# EAGLE library part STM32G0B1CETXN (library STM32G0B1CETxN)
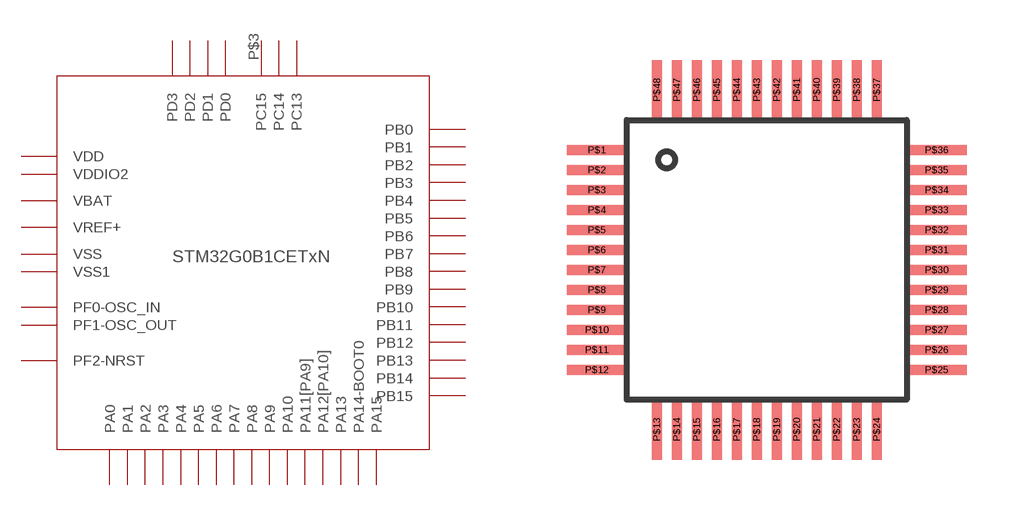
[diagram p0: symbol with the pads of LQFP48; footprint LQFP48]

Designator prefix -

## STM32G0B1CETXN  [LQFP48]
P$1  PC13
P$2  PC14
P$3  PC15
P$4  VBAT  pwr
P$5  VREF+  pwr
P$6  VDD  pwr
P$7  VSS  pwr
P$8  PF0-OSC_IN
P$9  PF1-OSC_OUT
P$10  PF2-NRST
P$11  PA0
P$12  PA1
P$13  PA2
P$14  PA3
P$15  PA4
P$16  PA5
P$17  PA6
P$18  PA7
P$19  PB0
P$20  PB1
P$21  PB2
P$22  PB10
P$23  PB11
P$24  PB12
P$25  PB13
P$26  PB14
P$27  PB15
P$28  PA8
P$29  PA9
P$30  VSS1  pwr
P$31  VDDIO2  pwr
P$32  PA10
P$33  PA11[PA9]
P$34  PA12[PA10]
P$35  PA13
P$36  PA14-BOOT0
P$37  PA15
P$38  PD0
P$39  PD1
P$40  PD2
P$41  PD3
P$42  PB3
P$43  PB4
P$44  PB5
P$45  PB6
P$46  PB7
P$47  PB8
P$48  PB9

## Footprint LQFP48 (pad centres in mm)
smd 1.5 x 0.25: P$1 -4.25,2.75; P$2 -4.25,2.25; P$3 -4.25,1.75; P$4 -4.25,1.25; P$5 -4.25,0.75; P$6 -4.25,0.25; P$7 -4.25,-0.25; P$8 -4.25,-0.75; P$9 -4.25,-1.25; P$10 -4.25,-1.75; P$11 -4.25,-2.25; P$12 -4.25,-2.75; P$25 4.25,-2.75; P$26 4.25,-2.25; P$27 4.25,-1.75; P$28 4.25,-1.25; P$29 4.25,-0.75; P$30 4.25,-0.25; P$31 4.25,0.25; P$32 4.25,0.75; P$33 4.25,1.25; P$34 4.25,1.75; P$35 4.25,2.25; P$36 4.25,2.75
smd 0.25 x 1.5: P$13 -2.75,-4.25; P$14 -2.25,-4.25; P$15 -1.75,-4.25; P$16 -1.25,-4.25; P$17 -0.75,-4.25; P$18 -0.25,-4.25; P$19 0.25,-4.25; P$20 0.75,-4.25; P$21 1.25,-4.25; P$22 1.75,-4.25; P$23 2.25,-4.25; P$24 2.75,-4.25; P$37 2.75,4.25; P$38 2.25,4.25; P$39 1.75,4.25; P$40 1.25,4.25; P$41 0.75,4.25; P$42 0.25,4.25; P$43 -0.25,4.25; P$44 -0.75,4.25; P$45 -1.25,4.25; P$46 -1.75,4.25; P$47 -2.25,4.25; P$48 -2.75,4.25